# EAGLE library part ES_3340_V1 (library Electrosmith-Boards)
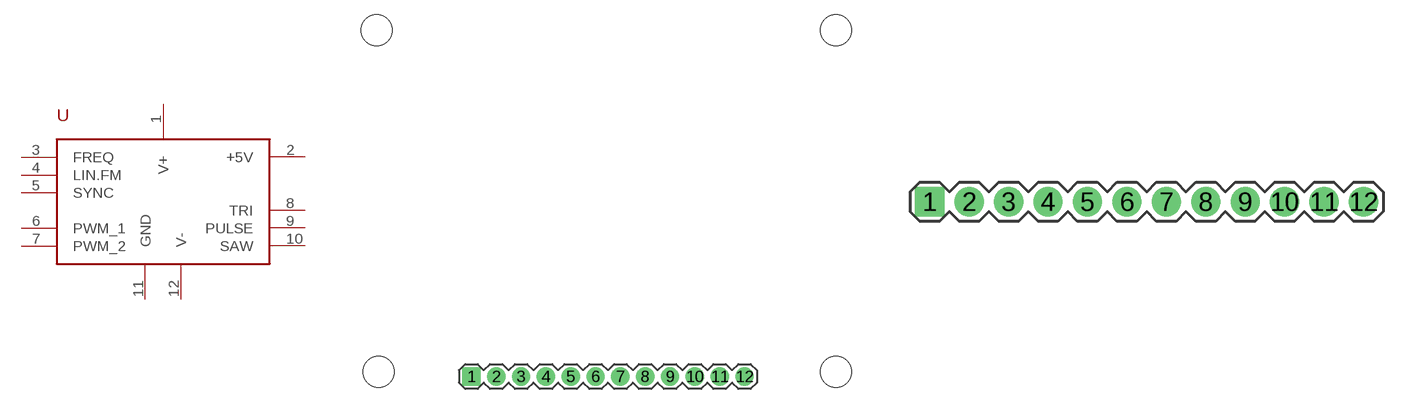
[diagram p8: symbol with the pads of ES_3340_4_HOLES; footprints ES_3340_4_HOLES, ES_3340_NO_HOLES]

Designator prefix -

## ES_3340_V1  [ES_3340_4_HOLES]
1  V+
2  +5V
3  FREQ
4  LIN.FM
5  SYNC
6  PWM_1
7  PWM_2
8  TRI
9  PULSE
10  SAW
11  GND
12  V-

## ES_3340_V1_NO_HOLES  [ES_3340_NO_HOLES]
Pads as for ES_3340_4_HOLES

## ES_3340_V1_VERT  [ES_3340_VERT]
Pads as for ES_3340_4_HOLES

## Footprint ES_3340_4_HOLES (pad centres in mm)
drill 1.016 pad 1.88 square: 1 12.7,2.54
drill 1.016 pad 1.88: 2 15.24,2.54; 3 17.78,2.54; 4 20.32,2.54; 5 22.86,2.54; 6 25.4,2.54; 7 27.94,2.54; 8 30.48,2.54; 9 33.02,2.54; 10 35.56,2.54; 11 38.1,2.54; 12 40.64,2.54
hole 3.175 at 3,38
hole 3.175 at 3.23,3.01
hole 3.175 at 50,38
hole 3.175 at 50,3

## Footprint ES_3340_NO_HOLES (pad centres in mm)
drill 1.016 pad 1.88 square: 1 12.7,2.54
drill 1.016 pad 1.88: 2 15.24,2.54; 3 17.78,2.54; 4 20.32,2.54; 5 22.86,2.54; 6 25.4,2.54; 7 27.94,2.54; 8 30.48,2.54; 9 33.02,2.54; 10 35.56,2.54; 11 38.1,2.54; 12 40.64,2.54

## Footprint ES_3340_VERT (pad centres in mm)
drill 1.016 pad 1.88 square: 1 0,0
drill 1.016 pad 1.88: 2 2.54,0; 3 5.08,0; 4 7.62,0; 5 10.16,0; 6 12.7,0; 7 15.24,0; 8 17.78,0; 9 20.32,0; 10 22.86,0; 11 25.4,0; 12 27.94,0